# Altium footprint library 2.01-SO封装.PcbLib: 24 footprints (part 1 of 2)
Each footprint in its own frame and in the unit in brackets; x right, y up, seen from the top. Pads: shape width x height; smd on the part's side, far side on the other; paste and mask are expansions set on the pad; w line width, h text height; cw(c..) or ccw(c..) is an arc to the next point about the centre after c.
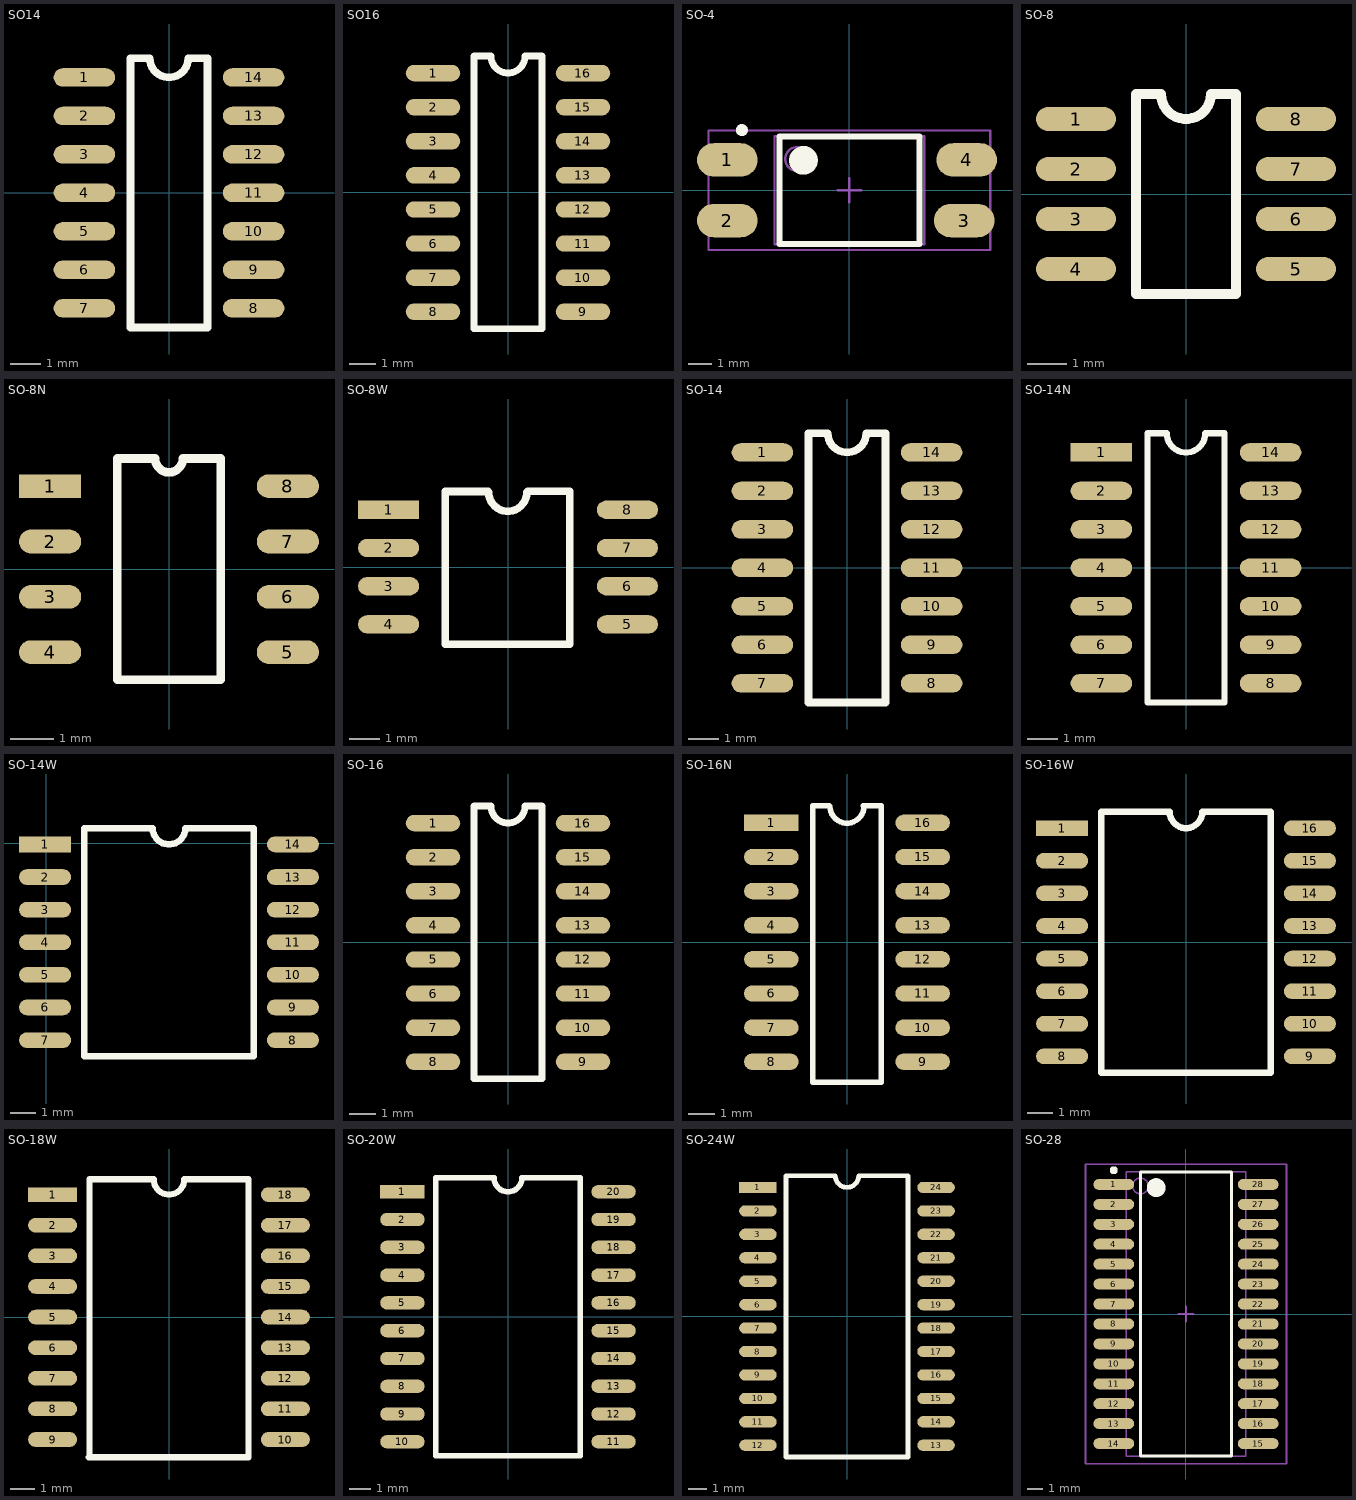
[diagram p0: the footprints below, top view; thin cyan lines are the x and y axes]

## SO14 [mil] "[ PCBѧϰȺ514746572 ]"
pads (14):
  oval 80x24 smd: 1(-110,150) 2(-110,100) 3(-110,50) 4(-110,0) 5(-110,-50) 6(-110,-100) 7(-110,-150) 8(110,-150) 9(110,-100) 10(110,-50) 11(110,0) 12(110,50) 13(110,100) 14(110,150)
Top Overlay:
  lines w10: -50,-175 50,-175 50,175 25,175 cw(c0,175) -25,175 -50,175 -50,-175
3D body "SOP-14.STEP": height 74.8, standoff 0.03, extent -118.22,-171.25 118.23,171.27

## SO16 [mil] "[ PCBѧϰȺ514746572 ]"
pads (16):
  oval 80x24 smd: 1(-110,175) 2(-110,125) 3(-110,75) 4(-110,25) 5(-110,-25) 6(-110,-75) 7(-110,-125) 8(-110,-175) 9(110,-175) 10(110,-125) 11(110,-75) 12(110,-25) 13(110,25) 14(110,75) 15(110,125) 16(110,175)
Top Overlay:
  lines w10: -50,-200 50,-200 50,200 25,200 cw(c0,200) -25,200 -50,200 -50,-200
3D body "SOP16.STEP": height 74.8, standoff 0.03, extent -118.21,-196.84 118.23,196.86

## SO-4 [mm] "SOP, 4-Leads, Body 4.5x6.3mm (max), Pitch 2.54mm, IPC Medium Density      [ PCBѧϰȺ514746572 ]"
height 3.9
pads (4):
  oval 2.54x1.4 smd: 1(-5.11,1.27) 2(-5.11,-1.27) 3(4.805,-1.27) 4(4.906,1.27)
Top Overlay:
  circle w0.6: c-1.925,1.25 r0.3
  circle w0.25: c-4.5,2.52 r0.125
  lines w0.254: -2.925,-2.25 2.925,-2.25 2.925,2.25 -2.925,2.25 -2.925,-2.25
Mechanical 13:
  circle w0.1: c-2.185,1.31 r0.5
  lines w0.1: -3.135,-2.26 3.135,-2.26 3.135,2.26 -3.135,2.26 -3.135,-2.26
Mechanical 15:
  lines w0.1: -0.5,0 0.5,0 ; 0,-0.5 0,0.5 ; -5.9,-2.5 5.9,-2.5 5.9,2.5 -5.9,2.5 -5.9,-2.5
3D body "User Library-DIP4_opto_iso.STEP": height 3.94, standoff 0.04, extent -5.066,-2.489 4.964,2.342

## SO-8 [mil] "[ PCBѧϰȺ514746572 ]"
pads (8):
  oval 80x24 smd: 1(-110,75) 2(-110,25) 3(-110,-25) 4(-110,-75) 5(110,-75) 6(110,-25) 7(110,25) 8(110,75)
Top Overlay:
  lines w10: -50,-100 50,-100 50,100 25,100 cw(c0,100) -25,100 -50,100 -50,-100
3D body "SOP8.STEP": height 74.8, standoff 0.03, extent -118.21,-98.42 118.23,98.43

## SO-8N [mm] "[ PCBѧϰȺ514746572 ]"
pads (8):
  rect 1.44x0.55 smd: 1(-2.75,1.92)
  oval 1.44x0.55 smd: 2(-2.75,0.64) 3(-2.75,-0.64) 4(-2.75,-1.92) 5(2.75,-1.92) 6(2.75,-0.64) 7(2.75,0.64) 8(2.75,1.92)
Top Overlay:
  lines w0.2: -1.195,-2.56 -1.195,2.56 -0.32,2.56 ccw(c0,2.56) 0.32,2.56 1.195,2.56 1.195,-2.56 -1.195,-2.56
3D body "SOP8.STEP": height 1.9, standoff 0, extent -3.003,-2.5 3.003,2.5

## SO-8W [mil] "[ PCBѧϰȺ514746572 ]"
pads (8):
  rect 80x24 smd: 1(-156.3,75)
  oval 80x24 smd: 2(-156.3,25) 3(-156.3,-25) 4(-156.3,-75) 5(156.3,-75) 6(156.3,-25) 7(156.3,25) 8(156.3,75)
Top Overlay:
  lines w10: -26.24,98.94 -81.91,98.94 -81.91,-101.06 80.71,-101.06 ; -25.3,98 ccw(c-0.3,98) 24.7,98 ; 25.7,99 80.71,99 ; 79.71,98 80.71,99 ; 80.71,-101 80.71,99
3D body "SOP8E .STEP": height 74.8, standoff 0.03, extent -155.22,-103.93 155.23,103.94

## SO-14 [mil] "[ PCBѧϰȺ514746572 ]"
pads (14):
  oval 80x24 smd: 1(-110,150) 2(-110,100) 3(-110,50) 4(-110,0) 5(-110,-50) 6(-110,-100) 7(-110,-150) 8(110,-150) 9(110,-100) 10(110,-50) 11(110,0) 12(110,50) 13(110,100) 14(110,150)
Top Overlay:
  lines w10: -50,-175 -50,175 -25,175 ccw(c0,175) 25,175 50,175 50,-175 -50,-175
3D body "SOP-14.STEP": height 74.8, standoff 0.03, extent -118.22,-171.25 118.23,171.27

## SO-14N [mil] "[ PCBѧϰȺ514746572 ]"
pads (14):
  rect 80x24 smd: 1(-110,150)
  oval 80x24 smd: 2(-110,100) 3(-110,50) 4(-110,0) 5(-110,-50) 6(-110,-100) 7(-110,-150) 8(110,-150) 9(110,-100) 10(110,-50) 11(110,0) 12(110,50) 13(110,100) 14(110,150)
Top Overlay:
  lines w8: -50,-175 -50,175 -25,175 ccw(c0,175) 25,175 50,175 50,-175 -50,-175
3D body "SOP-14.STEP": height 74.8, standoff 0.03, extent -118.22,-171.25 118.23,171.27

## SO-14W [mil] "[ PCBѧϰȺ514746572 ]"
pads (14):
  rect 80x24 smd: 1(-2,-2)
  oval 80x24 smd: 2(-2,-52) 3(-2,-102) 4(-2,-152) 5(-2,-202) 6(-2,-252) 7(-2,-302) 8(378,-302) 9(378,-252) 10(378,-202) 11(378,-152) 12(378,-102) 13(378,-52) 14(378,-2)
Top Overlay:
  lines w10: 58,-327 58,23 163,23 ccw(c188,23) 213,23 318,23 318,-327 58,-327

## SO-16 [mil] "[ PCBѧϰȺ514746572 ]"
pads (16):
  oval 80x24 smd: 1(-110,175) 2(-110,125) 3(-110,75) 4(-110,25) 5(-110,-25) 6(-110,-75) 7(-110,-125) 8(-110,-175) 9(110,-175) 10(110,-125) 11(110,-75) 12(110,-25) 13(110,25) 14(110,75) 15(110,125) 16(110,175)
Top Overlay:
  lines w10: -50,-200 50,-200 50,200 25,200 cw(c0,200) -25,200 -50,200 -50,-200
3D body "SOP16.STEP": height 74.8, standoff 0.03, extent -118.21,-196.84 118.23,196.86

## SO-16N [mil] "[ PCBѧϰȺ514746572 ]"
pads (16):
  rect 80x24 smd: 1(-110.95,175)
  oval 80x24 smd: 2(-110.95,125) 3(-110.95,75) 4(-110.95,25) 5(-110.95,-25) 6(-110.95,-75) 7(-110.95,-125) 8(-110.95,-175) 9(110.95,-175) 10(110.95,-125) 11(110.95,-75) 12(110.95,-25) 13(110.95,25) 14(110.95,75) 15(110.95,125) 16(110.95,175)
Top Overlay:
  lines w8: -50.05,199.62 -50.05,-205 49.95,-205 49.95,199.62 ; -50.05,200 -25.95,200 ; -25.05,199.62 ccw(c-0.05,199.62) 24.95,199.62 ; 24.05,200 49.95,200
3D body "SOP16.STEP": height 74.8, standoff 0.03, extent -118.21,-196.84 118.23,196.86

## SO-16W [mil] "[ PCBѧϰȺ514746572 ]"
pads (16):
  rect 80x24 smd: 1(-190,175)
  oval 80x24 smd: 2(-190,125) 3(-190,75) 4(-190,25) 5(-190,-25) 6(-190,-75) 7(-190,-125) 8(-190,-175) 9(190,-175) 10(190,-125) 11(190,-75) 12(190,-25) 13(190,25) 14(190,75) 15(190,125) 16(190,175)
Top Overlay:
  lines w10: -25.28,200 -130,200 -130,-200 130,-200 130,200 25,200 cw(c0,200) -25,200
3D body "SOP16W.STEP": height 106.3, standoff 0.03, extent -202.86,-202.75 202.87,202.76

## SO-18W [mil] "[ PCBѧϰȺ514746572 ]"
pads (18):
  rect 80x24 smd: 1(-190,200)
  oval 80x24 smd: 2(-190,150) 3(-190,100) 4(-190,50) 5(-190,0) 6(-190,-50) 7(-190,-100) 8(-190,-150) 9(-190,-200) 10(190,-200) 11(190,-150) 12(190,-100) 13(190,-50) 14(190,0) 15(190,50) 16(190,100) 17(190,150) 18(190,200)
Top Overlay:
  lines w10: -131,-229 129,-229 ; -130,-229 -130,225 -25,225 ccw(c0,225) 25,225 130,225 130,-229
3D body "SOP18w.STEP": height 106.3, standoff 0.03, extent -202.86,-226.37 202.87,226.38

## SO-20W [mil] "[ PCBѧϰȺ514746572 ]"
pads (20):
  rect 80x24 smd: 1(-190,225)
  oval 80x24 smd: 2(-190,175) 3(-190,125) 4(-190,75) 5(-190,25) 6(-190,-25) 7(-190,-75) 8(-190,-125) 9(-190,-175) 10(-190,-225) 11(190,-225) 12(190,-175) 13(190,-125) 14(190,-75) 15(190,-25) 16(190,25) 17(190,75) 18(190,125) 19(190,175) 20(190,225)
Top Overlay:
  lines w10: -130,-250 130,-250 130,250 25,250 cw(c0,250) -25,250 -130,250 -130,-250
3D body "SOP20.STEP": height 106.3, standoff 0.03, extent -202.86,-249.99 202.87,250.01

## SO-24W [mil] "[ PCBѧϰȺ514746572 ]"
pads (24):
  rect 80x24 smd: 1(-190,275)
  oval 80x24 smd: 2(-190,225) 3(-190,175) 4(-190,125) 5(-190,75) 6(-190,25) 7(-190,-25) 8(-190,-75) 9(-190,-125) 10(-190,-175) 11(-190,-225) 12(-190,-275) 13(190,-275) 14(190,-225) 15(190,-175) 16(190,-125) 17(190,-75) 18(190,-25) 19(190,25) 20(190,75) 21(190,125) 22(190,175) 23(190,225) 24(190,275)
Top Overlay:
  lines w10: -130,-300 -130,300 -25,300 ccw(c0,300) 25,300 130,300 130,-300 -130,-300
3D body "SOP24.STEP": height 106.3, standoff 0.03, extent -202.86,-303.14 202.87,303.16

## SO-28 [mm] "SOIC, 28-Leads, Body 17.9x7.5mm, Pitch 1.27mm, IPC Low Density      [ PCBѧϰȺ514746572 ]"
height 2.65
pads (28):
  oval 2.6x0.7 smd: 1(-4.6,8.255) 2(-4.6,6.985) 3(-4.6,5.715) 4(-4.6,4.445) 5(-4.6,3.175) 6(-4.6,1.905) 7(-4.6,0.635) 8(-4.6,-0.635) 9(-4.6,-1.905) 10(-4.6,-3.175) 11(-4.6,-4.445) 12(-4.6,-5.715) 13(-4.6,-6.985) 14(-4.6,-8.255) 15(4.6,-8.255) 16(4.6,-6.985) 17(4.6,-5.715) 18(4.6,-4.445) 19(4.6,-3.175) 20(4.6,-1.905) 21(4.6,-0.635) 22(4.6,0.635) 23(4.6,1.905) 24(4.6,3.175) 25(4.6,4.445) 26(4.6,5.715) 27(4.6,6.985) 28(4.6,8.255)
Top Overlay:
  circle w0.6: c-1.9,8.05 r0.3
  circle w0.25: c-4.6,9.155 r0.125
  lines w0.2: -2.9,-9.05 2.9,-9.05 2.9,9.05 -2.9,9.05 -2.9,-9.05
Mechanical 13:
  circle w0.1: c-2.9,8.155 r0.5
  lines w0.1: -3.8,-9.055 3.8,-9.055 3.8,9.055 -3.8,9.055 -3.8,-9.055
Mechanical 15:
  lines w0.1: -0.5,0 0.5,0 ; 0,-0.5 0,0.5 ; -6.4,-9.55 6.4,-9.55 6.4,9.55 -6.4,9.55 -6.4,-9.55
3D body "SOP28-21_asm.STEP": height 2.7, standoff 0, extent -5.153,-8.95 5.153,8.95